# Altium footprint library ACTION_Component.PcbLib: 79 footprints (part 4 of 5)
Each footprint in its own frame and in the unit in brackets; x right, y up, seen from the top. Pads: shape width x height; smd on the part's side, far side on the other; paste and mask are expansions set on the pad; w line width, h text height; cw(c..) or ccw(c..) is an arc to the next point about the centre after c.
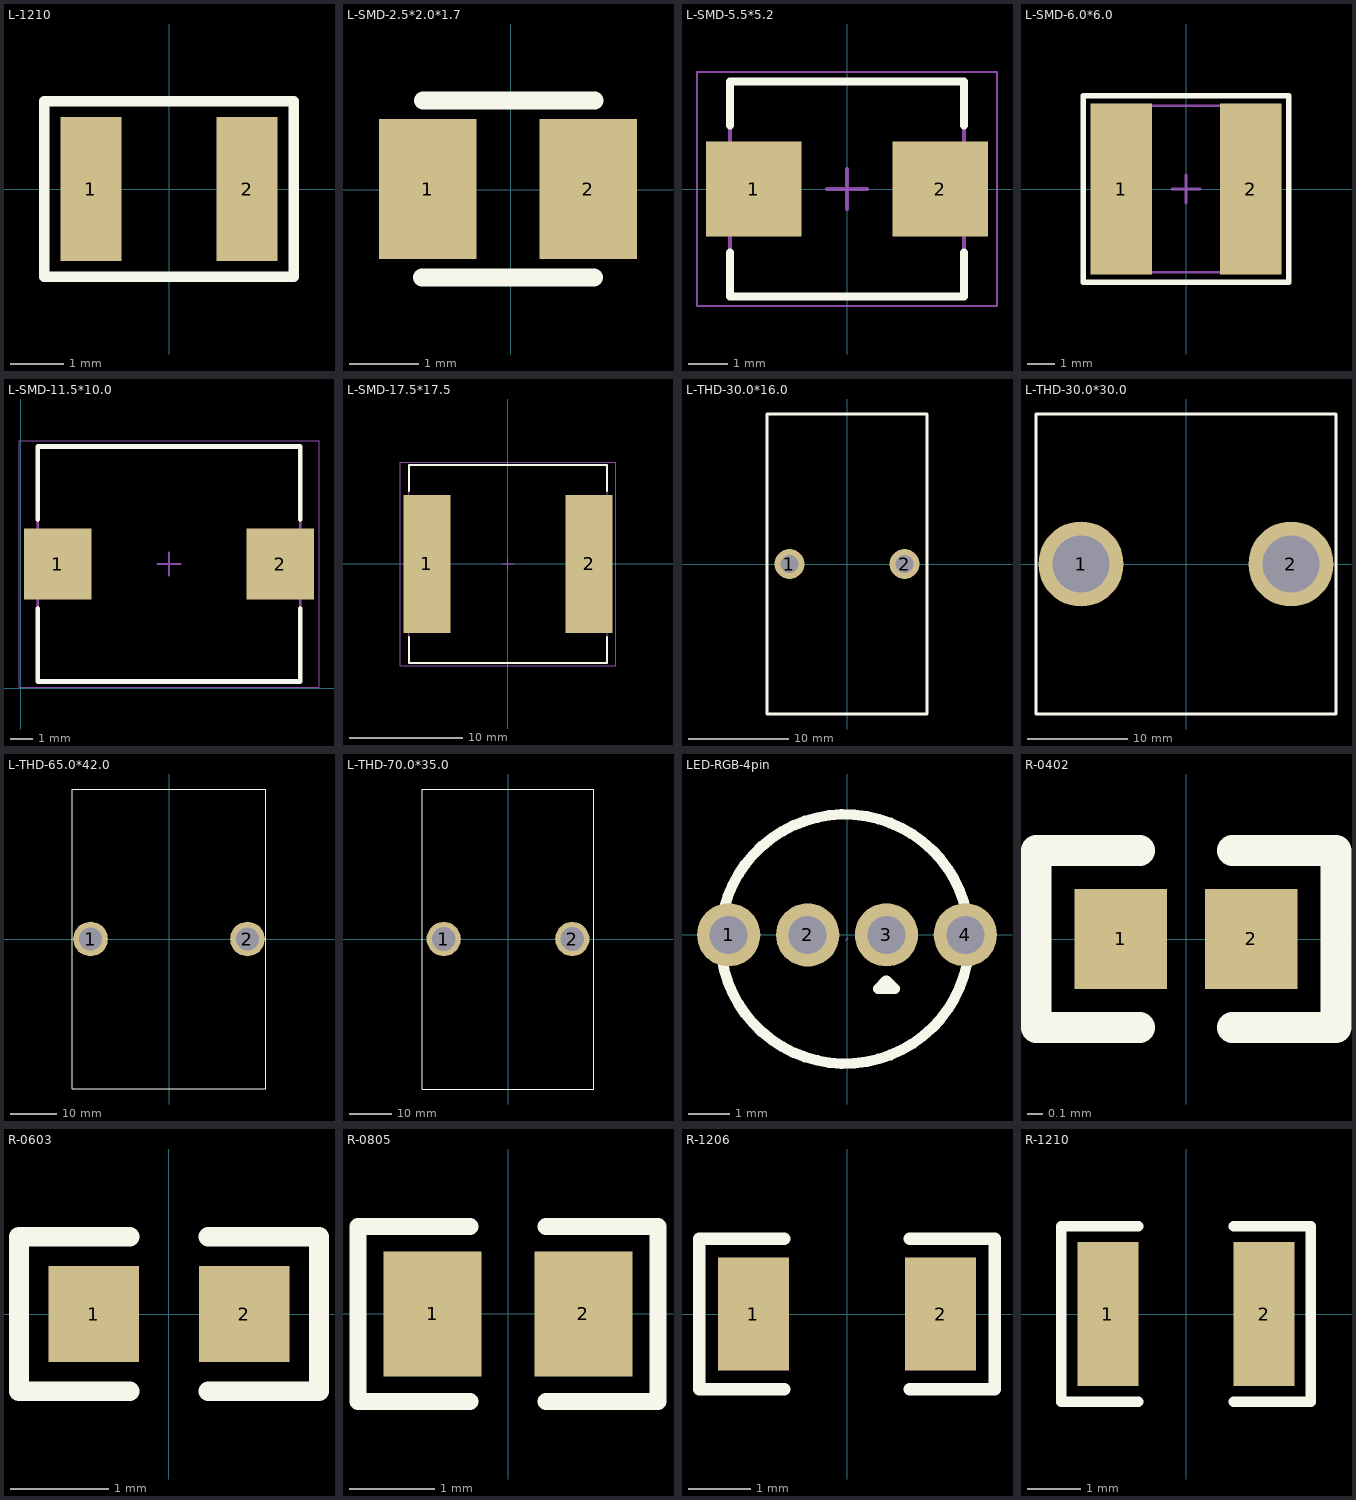
[diagram p3: the footprints below, top view; thin cyan lines are the x and y axes]

## L-1210 [mm]
pads (2):
  rect 1.16x2.72 smd: 1(-1.475,0) 2(1.475,0)
Top Overlay:
  lines w0.2: 2.337,-1.66 -2.355,-1.66 -2.355,1.66 2.337,1.66 ; 2.355,-1.66 2.355,1.66
3D body "User Library-R_1210.STEP": height 0.6, standoff 0, extent -1.6,-1.25 1.6,1.25

## L-SMD-2.5*2.0*1.7 [mm]
height 1.7
pads (2):
  rect 1.4x2 smd: 1(-1.188,0.013) 2(1.112,0.013)
Top Overlay:
  lines w0.254: -1.27,-1.257 1.194,-1.257 ; -1.257,1.283 1.207,1.283
3D body: height 1.7, standoff 0, extent -1.257,-1.003 1.207,1.003

## L-SMD-5.5*5.2 [mm]
height 3
pads (2):
  rect 2.4x2.4 smd: 1(-2.35,0) 2(2.35,0)
Top Overlay:
  lines w0.2: -2.95,-1.6 -2.95,-2.7 2.95,-2.7 2.95,-1.6 ; -2.95,1.6 -2.95,2.7 2.95,2.7 2.95,1.6
Mechanical 13:
  lines w0.1: -2.95,-2.7 -2.95,2.7 2.95,2.7 2.95,-2.7 -2.95,-2.7
Mechanical 15:
  lines w0.05: -3.775,-2.95 -3.775,2.95 3.775,2.95 3.775,-2.95 -3.775,-2.95
  lines w0.1: -0.5,0 0.5,0 ; 0,-0.5 0,0.5
3D body: height 3, standoff 0, extent -2.95,-2.7 2.95,2.7

## L-SMD-6.0*6.0 [mm]
height 4.5
pads (2):
  rect 2.2x6.14 smd: 1(-2.33,0) 2(2.33,0)
Top Overlay:
  lines w0.2: -3.7,-3.35 3.7,-3.35 3.7,3.35 -3.7,3.35 -3.7,-3.35
Mechanical 13:
  lines w0.1: -3,-3 -3,3 3,3 3,-3 -3,-3
Mechanical 15:
  lines w0.05: -3.7,-3.35 -3.7,3.35 3.7,3.35 3.7,-3.35 -3.7,-3.35
  lines w0.1: -0.5,0 0.5,0 ; 0,-0.5 0,0.5
3D body: height 4.5, standoff 0, extent -1.45,-3 1.45,3
3D body: height 4.5, standoff 0, extent -3,-3 -1.45,3
3D body: height 4.5, standoff 0, extent 1.45,-3 3,3

## L-SMD-11.5*10.0 [mm]
height 5
pads (2):
  rect 2.95x3.1 smd: 1(1.627,5.436) 2(11.377,5.436)
Top Overlay:
  lines w0.2: 0.752,3.486 0.752,0.286 12.252,0.286 12.252,3.486 ; 0.752,7.386 0.752,10.586 12.252,10.586 12.252,7.386
Mechanical 13:
  lines w0.1: 0.752,0.286 0.752,10.586 12.252,10.586 12.252,0.286 0.752,0.286
Mechanical 15:
  lines w0.05: -0.073,0.036 -0.073,10.836 13.077,10.836 13.077,0.036 -0.073,0.036
  lines w0.1: 6.002,5.436 7.002,5.436 ; 6.502,4.936 6.502,5.936
3D body: height 5, standoff 0, extent 0.752,0.286 12.252,10.586

## L-SMD-17.5*17.5 [mm]
height 7
pads (2):
  rect 4.15x12.15 smd: 1(-7.175,0) 2(7.175,0)
Top Overlay:
  lines w0.2: -8.75,-6.475 -8.75,-8.75 8.75,-8.75 8.75,-6.475 ; -8.75,6.475 -8.75,8.75 8.75,8.75 8.75,6.475
Mechanical 13:
  lines w0.1: -8.75,-8.75 -8.75,8.75 8.75,8.75 8.75,-8.75 -8.75,-8.75
Mechanical 15:
  lines w0.05: -9.5,-9 -9.5,9 9.5,9 9.5,-9 -9.5,-9
  lines w0.1: -0.5,0 0.5,0 ; 0,-0.5 0,0.5
3D body: height 7, standoff 0, extent -8.75,-8.75 8.75,8.75

## L-THD-30.0*16.0 [mm]
pads (2):
  round 3 hole 1.8: 1(-5.75,0) 2(5.75,0)
Top Overlay:
  lines w0.254: -8,-15 -8,15 8,15 8,-15 -8,-15
3D body: height 30, standoff 0, extent -8.001,-15.037 8.001,14.986

## L-THD-30.0*30.0 [mm]
pads (2):
  round 8.5 hole 5.7: 1(-10.5,0) 2(10.5,0)
Top Overlay:
  lines w0.254: -15,-15 15,-15 15,15 -15,15 -15,-15
3D body: height 30, standoff 0, extent -15.024,-15.037 14.986,14.986

## L-THD-65.0*42.0 [mm]
pads (2):
  round 7.5 hole 5: 1(-17,0) 2(17,0)
Top Overlay:
  lines w0.254: -21,-32.5 21,-32.5 21,32.5 -21,32.5 -21,-32.5
3D body: height 65, standoff 0, extent -21.033,-32.512 21.006,32.512

## L-THD-70.0*35.0 [mm]
pads (2):
  round 8 hole 5.5: 1(-15,0) 2(15,0)
Top Overlay:
  lines w0.254: -20,-35 20,-35 20,35 -20,35 -20,-35
3D body: height 65, standoff 0, extent -20.019,-35.001 19.99,34.95

## LED-RGB-4pin [mil]
pads (4):
  round 60 hole 36: 1(-112.2,0.05) 2(-37.3,-0.05) 3(37.4,0.05) 4(112.2,0.05)
Top Overlay:
  circle w10: c-2,-3.89 r118.11
  lines w10: 29.5,-51.13 37.37,-43.26 45.24,-51.13 29.5,-51.13
Mechanical 15:
  lines w0.1: -1,-4.89 1,-2.89

## R-0402 [mm]
pads (2):
  rect 0.6x0.65 smd mask+0.051: 1(-0.425,0) 2(0.425,0)
Top Overlay:
  lines w0.2: -0.3,-0.575 -0.975,-0.575 -0.975,0.575 -0.3,0.575 ; 0.3,-0.575 0.975,-0.575 0.975,0.575 0.3,0.575
3D body "User Library-RES_1005-0402.STEP": height 0.41, standoff 0, extent -0.575,-0.275 0.575,0.275

## R-0603 [mm]
pads (2):
  rect 0.93x0.98 smd: 1(-0.77,0) 2(0.77,0)
Top Overlay:
  lines w0.2: -0.4,-0.79 -1.535,-0.79 -1.535,0.79 -0.4,0.79 ; 0.4,-0.79 1.535,-0.79 1.535,0.79 0.4,0.79
3D body "User Library-RES_1609-0603.STEP": height 0.56, standoff 0, extent -0.85,-0.4 0.85,0.4

## R-0805 [mm]
pads (2):
  rect 1.16x1.47 smd: 1(-0.89,0) 2(0.89,0)
Top Overlay:
  lines w0.2: -0.45,-1.035 -1.77,-1.035 -1.77,1.035 -0.45,1.035 ; 0.45,-1.035 1.77,-1.035 1.77,1.035 0.45,1.035
3D body "User Library-R_0805.STEP": height 0.49, standoff -0.01, extent -0.997,-0.625 1.003,0.625

## R-1206 [mm]
pads (2):
  rect 1.13x1.8 smd: 1(-1.49,0) 2(1.49,0)
Top Overlay:
  lines w0.2: -1,-1.2 -2.355,-1.2 -2.355,1.2 -1,1.2 ; 1,-1.2 2.355,-1.2 2.355,1.2 1,1.2
3D body "User Library-RES_3216-1206.STEP": height 0.85, standoff 0, extent -1.7,-0.864 1.65,0.866

## R-1210 [mm]
pads (2):
  rect 1.16x2.72 smd: 1(-1.475,0) 2(1.475,0)
Top Overlay:
  lines w0.2: -0.9,-1.66 -2.355,-1.66 -2.355,1.66 -0.9,1.66 ; 0.9,-1.66 2.355,-1.66 2.355,1.66 0.9,1.66
3D body "User Library-R_1210.STEP": height 0.6, standoff 0, extent -1.6,-1.25 1.6,1.25